# Altium footprint library VESC_DEVICE.PcbLib: 39 footprints (part 1 of 3)
Each footprint in its own frame and in the unit in brackets; x right, y up, seen from the top. Pads: shape width x height; smd on the part's side, far side on the other; paste and mask are expansions set on the pad; w line width, h text height; cw(c..) or ccw(c..) is an arc to the next point about the centre after c.
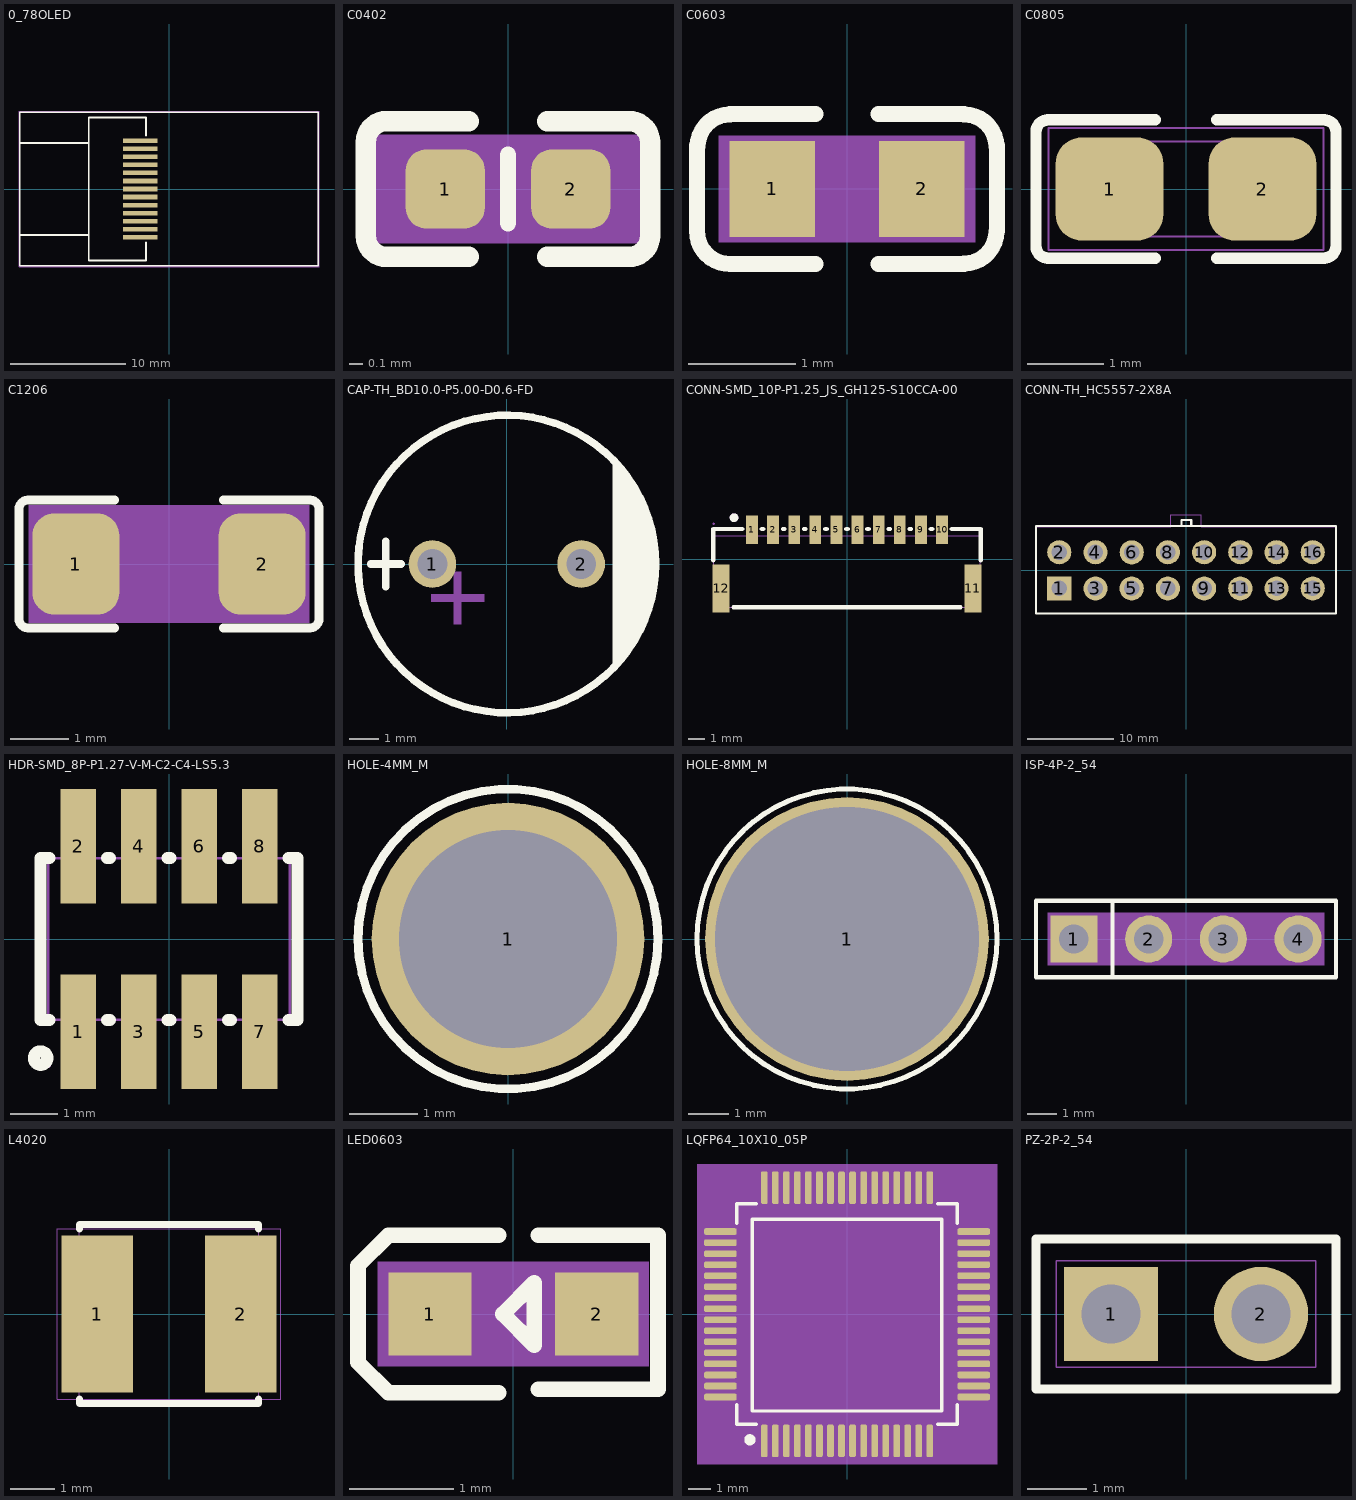
[diagram p0: the footprints below, top view; thin cyan lines are the x and y axes]

## 0_78OLED [mm] "0_78OLED"
pads (13):
  rect 3x0.4 smd: 1(-2.5,-4.2) 2(-2.5,-3.5) 3(-2.5,-2.8) 4(-2.5,-2.1) 5(-2.5,-1.4) 6(-2.5,-0.7) 7(-2.5,0) 8(-2.5,0.7) 9(-2.5,1.4) 10(-2.5,2.1) 11(-2.5,2.8) 12(-2.5,3.5) 13(-2.5,4.2)
Top Overlay:
  lines w0.152: -13,-4 -7,-4 ; -13,4 -7,4 ; -2,-4.631 -2,-6.233 -6.998,-6.233 -7,-6.231 -7,6.231 -2,6.231 -2,4.631 ; -13,-6.7 -13,6.7 13,6.7 13,-6.7 -13,-6.7
Top 3D Body:
  lines w0.025: -13.076,-6.776 -13.076,6.776 13.076,6.776 13.076,-6.776 -13.076,-6.776
Mechanical 9:
  text "9" at -2.754,0.13 h0.64
  text "1" at -2.754,-5.47 h0.64
  text "2" at -2.754,-4.77 h0.64
  text "8" at -2.754,-0.57 h0.64
  text "13" at -3.008,2.93 h0.64
  text "12" at -3.008,2.23 h0.64
  text "10" at -3.008,0.83 h0.64
  text "7" at -2.754,-1.27 h0.64
  text "5" at -2.754,-2.67 h0.64
  text "6" at -2.754,-1.97 h0.64
  text "11" at -3.008,1.53 h0.64
  text "3" at -2.754,-4.07 h0.64
  text "4" at -2.754,-3.37 h0.64
Top Assembly:
  lines w0.025: -13,-6.7 -13,6.7 13,6.7 13,-6.7 -13,-6.7

## C0402 [mm] "C0402"
pads (2):
  rrect52% 0.58x0.58 smd mask+0.05: 1(-0.46,0) 2(0.46,0)
Top Overlay:
  lines w0.12: 0,-0.25 0,0.25
  lines w0.15: -1.041,-0.348 ccw(c-0.889,-0.345) -0.889,-0.498 -0.289,-0.498 ; -1.041,-0.345 -1.041,0.345 ; -1.041,0.348 cw(c-0.889,0.345) -0.889,0.498 -0.289,0.498 ; 0.289,-0.498 0.889,-0.498 ccw(c0.889,-0.345) 1.041,-0.345 1.041,0.345 ccw(c0.889,0.345) 0.889,0.498 0.289,0.498
Top 3D Body:
  region: -1.1,-0.399 1.1,-0.399 1.1,0.399 -1.1,0.399
Mechanical 9:
  text "1" at -0.635,-0.254 h0.64
  text "2" at 0.254,-0.254 h0.64
Top Assembly:
  lines w0.025: -0.508,-0.241 -0.508,0.241 0.508,0.241 0.508,-0.241 -0.508,-0.241
3D body "CAPC1005X55.STEP": height 0.55, standoff 0, extent -0.5,-0.25 0.5,0.25

## C0603 [mil] "C0603"
pads (2):
  rect 31.5x35.4 smd: 1(-27.6,0) 2(27.6,0)
Top Overlay:
  lines w5.9: -55.3,16 -55.3,-15.5 ccw(c-43.13,-15.53) -43.1,-27.7 -11.7,-27.7 ; -55.1,15.7 cw(c-43.13,15.53) -43.1,27.5 ; -43.1,27.7 -11.7,27.7 ; 11.7,-27.7 43.1,-27.7 ; 11.7,27.7 43.1,27.7 ; 43.1,-27.5 ccw(c43.13,-15.53) 55.1,-15.7 ; 43.1,27.5 cw(c43.13,15.53) 55.1,15.7 ; 55.3,-15.5 55.3,16
Top 3D Body:
  region: -47.2,-19.7 47.2,-19.7 47.2,19.7 -47.2,19.7
Mechanical 9:
  text "2" at 27.6,10 h25
  text "1" at -27.6,10 h25
Top Assembly:
  lines w1: -31.5,-15.7 -31.5,15.7 31.5,15.7 31.5,-15.7 -31.5,-15.7
3D body "CAPC1608X90.STEP": height 35.43, standoff 0, extent -32.28,-16.34 30.71,15.55

## C0805 [mil] "C0805"
pads (2):
  rrect50% 55.5x53.1 smd: 1(-39.4,0) 2(39.4,0)
Top Overlay:
  lines w5.9: -15.8,-35.6 -71.3,-35.6 cw(c-71.28,-29.58) -77.3,-29.6 -77.3,29.6 cw(c-71.28,29.58) -71.3,35.6 -15.8,35.6 ; 15.8,-35.6 71.3,-35.6 ccw(c71.28,-29.58) 77.3,-29.6 77.3,29.6 ccw(c71.28,29.58) 71.3,35.6 15.8,35.6
Top 3D Body:
  lines w1: -70.9,-31.5 70.9,-31.5 70.9,31.5 -70.9,31.5 -70.9,-31.5
Mechanical 9:
  text "1" at -49.4,0 h25
  text "2" at 29.4,0 h25
Top Assembly:
  lines w1: -39.4,-24.4 39.4,-24.4 39.4,24.4 -39.4,24.4 -39.4,-24.4
3D body "CAPC2012X140.STEP": height 55.12, standoff 0, extent -39.37,-24.61 39.37,24.61

## C1206 [mil] "C1206"
pads (2):
  rrect50% 58.5x68 smd: 1(-62.7,0) 2(62.6,0)
Top Overlay:
  lines w5.9: -36.5,-43 -94.9,-43 cw(c-94.9,-37) -100.9,-37 -100.9,37 cw(c-94.9,37) -94.9,43 -36.5,43 ; 36.5,-43 94.9,-43 ccw(c94.9,-37) 100.9,-37 100.9,37 ccw(c94.9,37) 94.9,43 36.5,43
Top 3D Body:
  region: -94.5,-39.4 94.5,-39.4 94.5,39.4 -94.5,39.4
Mechanical 9:
  text "2" at 70.9,-31.8 h25
  text "1" at -59.1,-31.8 h25
Top Assembly:
  lines w1: -63,-31.5 63,-31.5 63,31.5 -63,31.5 -63,-31.5
3D body "CAPC3216X127.step": height 50, standoff 0, extent -62.99,-31.5 62.99,31.5

## CAP-TH_BD10.0-P5.00-D0.6-FD [mm]
pads (2):
  round 1.6 hole 1 paste-2539.97 mask+0.05: 1(-2.5,0) 2(2.5,0)
Top Overlay:
  circle w0.254: c0,0 r5
  region: 3.556,3.556 3.556,-3.556 4.318,-2.54 4.826,-1.016 5.08,0.508 4.826,1.524
  lines w0.254: -4.572,0 -3.556,0 ; -4.064,-0.762 -4.064,0.762
Mechanical 6:
  region: -1.778,-0.762 -1.778,-2.032 -1.524,-2.032 -1.524,-0.254 -1.778,-0.254
  region: -2.54,-1.016 -0.762,-1.016 -0.762,-1.27 -2.54,-1.27
Mechanical 15:
  lines w0.051: -5,0 cw(c0,0) 5,0 cw(c0,0) -5,0
3D body "CAP-TH_BD10.0-P5.00-D0.6-FD.step": height 24.91, standoff -3.5, extent -4.991,-5 5.005,5

## CONN-SMD_10P-P1.25_JS_GH125-S10CCA-00 [mm]
pads (12):
  rect 0.7x1.68 smd paste+0 mask+0.05: 1(-5.625,1.733) 2(-4.375,1.733) 3(-3.125,1.733) 4(-1.875,1.733) 5(-0.625,1.733) 6(0.625,1.733) 7(1.875,1.733) 8(3.125,1.733) 9(4.375,1.733) 10(5.625,1.733)
  rect 1x2.85 smd paste+0 mask+0.05: 11(7.455,-1.733) 12(-7.455,-1.733)
Top Overlay:
  circle w0.254: c-6.69,2.45 r0.127
  lines w0.254: -7.924,-0.076 -7.924,1.778 -6.206,1.778 ; -6.724,-2.857 6.724,-2.857 ; -5.044,1.778 -4.956,1.778 ; -3.794,1.778 -3.706,1.778 ; -2.544,1.778 -2.456,1.778 ; -1.294,1.778 -1.206,1.778 ; -0.044,1.778 0.044,1.778 ; 1.206,1.778 1.294,1.778 ; 2.456,1.778 2.544,1.778 ; 3.706,1.778 3.794,1.778 ; 4.956,1.778 5.044,1.778 ; 6.206,1.778 7.924,1.778 7.924,-0.076
Mechanical 6:
  circle w0.254: c-6.69,2.45 r0.127
Mechanical 15:
  region: -7.555,-1.357 -7.355,-1.357 -7.355,-2.857 -7.555,-2.857
  region: 7.555,-2.857 7.355,-2.857 7.355,-1.357 7.555,-1.357
  region: -5.725,2.09 -5.525,2.09 -5.525,1.09 -5.725,1.09
  region: -4.475,2.09 -4.275,2.09 -4.275,1.09 -4.475,1.09
  region: -3.225,2.09 -3.025,2.09 -3.025,1.09 -3.225,1.09
  region: -1.975,2.09 -1.775,2.09 -1.775,1.09 -1.975,1.09
  region: -0.725,2.09 -0.525,2.09 -0.525,1.09 -0.725,1.09
  region: 0.525,2.09 0.725,2.09 0.725,1.09 0.525,1.09
  region: 1.775,2.09 1.975,2.09 1.975,1.09 1.775,1.09
  region: 3.025,2.09 3.225,2.09 3.225,1.09 3.025,1.09
  region: 4.275,2.09 4.475,2.09 4.475,1.09 4.275,1.09
  region: 5.52,2.09 5.72,2.09 5.72,1.09 5.52,1.09
  region: -7.84,2.09 -7.84,2.115 -7.875,2.15 -7.925,2.15 -7.96,2.115 -7.96,2.09 -7.96,2.065 -7.925,2.03 -7.875,2.03 -7.84,2.065 -7.84,2.09
  lines w0.051: -7.9,-2.857 7.9,-2.857 7.9,1.393 -7.9,1.393 -7.9,-2.857
3D body "3ZO0-CN1.step": height 4.15, standoff 0, extent -7.896,-2.848 7.904,2.082

## CONN-TH_HC5557-2X8A [mm]
pads (16):
  rect 2.8x2.8 hole 1.8: 1(-14.7,-2.1)
  round 2.8 hole 1.8: 2(-14.7,2.1) 3(-10.5,-2.1) 4(-10.5,2.1) 5(-6.3,-2.1) 6(-6.29,2.091) 7(-2.1,-2.1) 8(-2.1,2.1) 9(2.1,-2.1) 10(2.1,2.1) 11(6.3,-2.1) 12(6.3,2.1) 13(10.5,-2.1) 14(10.5,2.1) 15(14.7,-2.1) 16(14.7,2.1)
Top Overlay:
  lines w0.254: -17.4,5 -17.4,-5 17.4,-5 17.4,5.146 -17.4,5.146 ; -0.533,5.204 -0.533,5.842 0.61,5.842 0.61,5.204
Mechanical 15:
  region: -6.86,2.661 -5.72,2.661 -5.72,1.521 -6.86,1.521
  region: -6.87,-1.53 -5.73,-1.53 -5.73,-2.67 -6.87,-2.67
  region: -11.07,2.67 -9.93,2.67 -9.93,1.53 -11.07,1.53
  region: -11.07,-1.53 -9.93,-1.53 -9.93,-2.67 -11.07,-2.67
  region: -15.27,2.67 -14.13,2.67 -14.13,1.53 -15.27,1.53
  region: -15.27,-1.53 -14.13,-1.53 -14.13,-2.67 -15.27,-2.67
  region: -2.67,-1.53 -1.53,-1.53 -1.53,-2.67 -2.67,-2.67
  region: -2.67,2.67 -1.53,2.67 -1.53,1.53 -2.67,1.53
  region: 1.53,-1.53 2.67,-1.53 2.67,-2.67 1.53,-2.67
  region: 1.53,2.67 2.67,2.67 2.67,1.53 1.53,1.53
  region: 5.73,-1.53 6.87,-1.53 6.87,-2.67 5.73,-2.67
  region: 5.73,2.67 6.87,2.67 6.87,1.53 5.73,1.53
  region: 9.93,-1.53 11.07,-1.53 11.07,-2.67 9.93,-2.67
  region: 9.93,2.67 11.07,2.67 11.07,1.53 9.93,1.53
  region: 14.13,-1.53 15.27,-1.53 15.27,-2.67 14.13,-2.67
  region: 14.13,2.67 15.27,2.67 15.27,1.53 14.13,1.53
  lines w0.051: -17.399,-4.953 -17.145,-4.953 -16.637,-4.953 17.399,-4.953 17.399,5.08 1.778,5.08 1.778,6.477 -1.778,6.477 -1.778,5.08 -17.399,5.08 -17.399,-4.953
3D body "yane-H1.step": height 13.2, standoff -3.5, extent -17.4,-4.95 17.4,6.45

## HDR-SMD_8P-P1.27-V-M-C2-C4-LS5.3 [mm]
pads (8):
  rect 0.74x2.4 smd paste+0 mask+0.05: 1(-1.905,-1.95) 2(-1.905,1.95) 3(-0.635,-1.95) 4(-0.635,1.95) 5(0.635,-1.95) 6(0.635,1.95) 7(1.905,-1.95) 8(1.905,1.95)
Top Overlay:
  circle w0.254: c-2.695,-2.5 r0.141
  lines w0.254: -2.506,-1.7 -2.695,-1.7 -2.695,1.7 -2.506,1.7 ; -1.304,-1.7 -1.236,-1.7 ; -1.304,1.7 -1.236,1.7 ; -0.034,-1.7 0.034,-1.7 ; -0.034,1.7 0.034,1.7 ; 1.236,-1.7 1.304,-1.7 ; 1.236,1.7 1.304,1.7 ; 2.506,-1.7 2.695,-1.7 2.695,1.7 2.506,1.7
Mechanical 15:
  region: 1.705,2.65 2.105,2.65 2.105,1.15 1.705,1.15
  region: 1.705,-1.15 2.105,-1.15 2.105,-2.65 1.705,-2.65
  region: 0.435,2.65 0.835,2.65 0.835,1.15 0.435,1.15
  region: 0.435,-1.15 0.835,-1.15 0.835,-2.65 0.435,-2.65
  region: -0.835,2.65 -0.435,2.65 -0.435,1.15 -0.835,1.15
  region: -0.835,-1.15 -0.435,-1.15 -0.435,-2.65 -0.835,-2.65
  region: -2.105,2.65 -1.705,2.65 -1.705,1.15 -2.105,1.15
  region: -2.105,-1.15 -1.705,-1.15 -1.705,-2.65 -2.105,-2.65
  region: -2.48,-2.65 -2.481,-2.626 -2.516,-2.591 -2.565,-2.591 -2.599,-2.626 -2.6,-2.65 -2.599,-2.675 -2.564,-2.709 -2.515,-2.709 -2.481,-2.674 -2.48,-2.65
  lines w0.051: -2.54,-1.7 2.54,-1.7 2.54,1.7 -2.54,1.7 -2.54,-1.7
3D body "iWih-H1.step": height 4.5, standoff 0, extent -2.74,-2.4 2.74,2.4

## HOLE-4MM_M [mm]
pads (1):
  round 4 hole 3.2: 1(0,0)
Top Overlay:
  circle w0.127: c0,0 r2.2
Top Solder:
  circle w0.305: c0.01,-0.002 r1.645
Bottom Solder:
  circle w0.305: c-0.003,-0.001 r1.645

## HOLE-8MM_M [mm]
pads (1):
  round 7 / inner round 4 / far side round 7 hole 6.5: 1(0,0)
Top Overlay:
  circle w0.127: c0,0 r3.7
Top Solder:
  circle w0.305: c0.01,-0.002 r1.645
Bottom Solder:
  circle w0.305: c-0.003,-0.001 r1.645

## ISP-4P-2_54 [mm] "ISP-4P-2_54"
pads (4):
  rect 1.6x1.6 hole 1: 1(-3.81,0)
  round 1.6 hole 1: 2(-1.27,0) 3(1.27,0) 4(3.81,0)
Top Overlay:
  lines w0.15: -2.5,-1.3 -2.5,1.3 ; -5.1,-1.3 5.1,-1.3 5.1,1.3 -5.1,1.3 -5.1,-1.3
Top 3D Body:
  region: -4.7,-0.9 4.7,-0.9 4.7,0.9 -4.7,0.9
Mechanical 9:
  text "1" at -3.092,-0.3 h0.64
  text "3" at 1.908,-0.4 h0.64
  text "2" at -0.492,-0.3 h0.64
  text "4" at 4.508,-0.4 h0.64
Top Assembly:
  lines w0.025: -5.08,-1.27 5.08,-1.27 5.08,1.27 -5.08,1.27 -5.08,-1.27
3D body "dNjH-H1.step": height 8.54, standoff -3, extent -5.08,-1.33 5.09,1.33

## L4020 [mil] "L4020"
pads (2):
  rect 63x137.8 smd: 1(-63,0) 2(63,0)
Top Overlay:
  lines w5.9: -78.7,-74.8 -78.7,-78.7 78.7,-78.7 78.7,-74.8 ; -78.7,74.8 -78.7,78.7 78.7,78.7 78.7,74.8
Top 3D Body:
  lines w1: -98.4,-74.8 -98.4,74.8 98.4,74.8 98.4,-74.8 -98.4,-74.8
Mechanical 9:
  text "1" at -79.1,-11.8 h25
  text "2" at 50.9,-11.8 h25
Top Assembly:
  lines w1: -78.7,-78.7 78.7,-78.7 78.7,78.7 -78.7,78.7 -78.7,-78.7
3D body "IND-SMD_L4.0-W4.0_LQH44PN2R2MP0L.step": height 73.23, standoff 0, extent -79.13,-78.74 79.13,78.74

## LED0603 [mil] "LED0603"
pads (2):
  rect 31.5x31.5 smd: 1(-31.5,0) 2(31.5,0)
Top Overlay:
  lines w5.9: -5.5,-29.8 -47.2,-29.8 -58.7,-18.3 -58.7,18.3 -47.2,29.8 -5.5,29.8 ; 9.4,-28.5 54.7,-28.5 54.7,29.8 9.4,29.8 ; -3.9,0 7.9,11.8 7.9,-11.8 -3.9,0
Top 3D Body:
  region: -51.2,-19.7 51.2,-19.7 51.2,19.7 -51.2,19.7
Mechanical 9:
  text "1" at -23.6,8.2 h25
  text "2" at 39.4,8.2 h25
Top Assembly:
  lines w1: -31.5,-15.7 31.5,-15.7 31.5,15.7 -31.5,15.7 -31.5,-15.7

## LQFP64_10X10_05P [mm] "LQFP64_10X10_05P"
pads (64):
  rrect50% 0.3x1.475 smd: 1(-3.749,-5.751) 2(-3.249,-5.751) 3(-2.749,-5.751) 4(-2.249,-5.751) 5(-1.749,-5.751) 6(-1.249,-5.751) 7(-0.749,-5.751) 8(-0.249,-5.751) 9(0.251,-5.751) 10(0.751,-5.751) 11(1.251,-5.751) 12(1.751,-5.751) 13(2.251,-5.751) 14(2.751,-5.751) 15(3.251,-5.751) 16(3.751,-5.751) 33(3.751,5.725) 34(3.251,5.725) 35(2.751,5.725) 36(2.251,5.725) 37(1.751,5.725) 38(1.251,5.725) 39(0.751,5.725) 40(0.251,5.725) 41(-0.249,5.725) 42(-0.749,5.725) 43(-1.249,5.725) 44(-1.749,5.725) 45(-2.249,5.725) 46(-2.749,5.725) 47(-3.249,5.725) 48(-3.749,5.725)
  rrect50% 1.475x0.3 smd: 17(5.739,-3.763) 18(5.739,-3.263) 19(5.739,-2.763) 20(5.739,-2.263) 21(5.739,-1.763) 22(5.739,-1.263) 23(5.739,-0.763) 24(5.739,-0.263) 25(5.739,0.237) 26(5.739,0.737) 27(5.739,1.237) 28(5.739,1.737) 29(5.739,2.237) 30(5.739,2.737) 31(5.739,3.237) 32(5.739,3.737) 49(-5.737,3.737) 50(-5.737,3.237) 51(-5.737,2.737) 52(-5.737,2.237) 53(-5.737,1.737) 54(-5.737,1.237) 55(-5.737,0.737) 56(-5.737,0.237) 57(-5.737,-0.263) 58(-5.737,-0.763) 59(-5.737,-1.263) 60(-5.737,-1.763) 61(-5.737,-2.263) 62(-5.737,-2.763) 63(-5.737,-3.263) 64(-5.737,-3.763)
Top Overlay:
  circle w0.254: c-4.404,-5.703 r0.127
  lines w0.15: -5.001,-4.1 -5.001,-5.001 -4.1,-5.001 ; -5.001,4.1 -5.001,5.001 -4.1,5.001 ; 4.1,-5.001 5.001,-5.001 5.001,-4.1 ; 4.1,5.001 5.001,5.001 5.001,4.1 ; -4.3,-4.399 -4.3,4.3 4.3,4.3 4.3,-4.399 -4.3,-4.399
Top 3D Body:
  region: -6.8,-6.8 6.8,-6.8 6.8,6.8 -6.8,6.8
Mechanical 9:
  text "3" at -2.751,-6.005 h0.64
  text "4" at -2.25,-6.005 h0.64
  text "49" at -5.751,3.241 h0.64
  text "36" at 2.25,5.243 h0.64
  text "12" at 1.75,-6.259 h0.64
  text "18" at 5.751,-3.759 h0.64
  text "63" at -5.751,-3.759 h0.64
  text "60" at -5.751,-2.258 h0.64
  text "22" at 5.751,-1.758 h0.64
  text "8" at -0.249,-6.005 h0.64
  text "5" at -1.75,-6.005 h0.64
  text "15" at 3.251,-6.259 h0.64
  text "62" at -5.751,-3.259 h0.64
  text "39" at 0.749,5.243 h0.64
  text "35" at 2.751,5.243 h0.64
  text "26" at 5.751,0.241 h0.64
  text "11" at 1.25,-6.259 h0.64
  text "9" at 0.249,-6.005 h0.64
  text "47" at -3.251,5.243 h0.64
  text "41" at -0.249,5.243 h0.64
  text "31" at 5.751,2.743 h0.64
  text "45" at -2.25,5.243 h0.64
  text "46" at -2.751,5.243 h0.64
  text "44" at -1.75,5.243 h0.64
  text "25" at 5.751,-0.259 h0.64
  text "61" at -5.751,-2.758 h0.64
  text "43" at -1.25,5.243 h0.64
  text "10" at 0.749,-6.259 h0.64
  text "27" at 5.751,0.742 h0.64
  text "34" at 3.251,5.243 h0.64
  text "37" at 1.75,5.243 h0.64
  text "21" at 5.751,-2.258 h0.64
  text "52" at -5.751,1.742 h0.64
  text "24" at 5.751,-0.757 h0.64
  text "42" at -0.749,5.243 h0.64
  text "17" at 5.751,-4.257 h0.64
  text "30" at 5.751,2.243 h0.64
  text "20" at 5.751,-2.758 h0.64
  text "58" at -5.751,-1.257 h0.64
  text "6" at -1.25,-6.005 h0.64
  text "29" at 5.751,1.742 h0.64
  text "23" at 5.751,-1.257 h0.64
  text "14" at 2.751,-6.259 h0.64
  text "48" at -3.749,5.243 h0.64
  text "13" at 2.25,-6.259 h0.64
  text "1" at -3.749,-6.005 h0.64
  text "64" at -5.751,-4.257 h0.64
  text "19" at 5.751,-3.259 h0.64
  text "32" at 5.751,3.241 h0.64
  text "16" at 3.749,-6.259 h0.64
  text "7" at -0.749,-6.005 h0.64
  text "38" at 1.25,5.243 h0.64
  text "59" at -5.751,-1.758 h0.64
  text "51" at -5.751,2.243 h0.64
  text "50" at -5.751,2.743 h0.64
  text "40" at 0.249,5.243 h0.64
  text "54" at -5.751,0.742 h0.64
  text "53" at -5.751,1.242 h0.64
  text "33" at 3.749,5.243 h0.64
  text "28" at 5.751,1.242 h0.64
  text "2" at -3.251,-6.005 h0.64
  text "56" at -5.751,-0.259 h0.64
  text "57" at -5.751,-0.757 h0.64
  text "55" at -5.751,0.241 h0.64
Top Assembly:
  dashed: -4.4,-5.332 -4.541,-5.36 -4.661,-5.439 -4.74,-5.559 -4.768,-5.7 -4.74,-5.841 -4.714,-5.881 -4.661,-5.961 -4.541,-6.04 -4.4,-6.068 -4.259,-6.04 -4.139,-5.961 -4.086,-5.881 -4.06,-5.841 -4.032,-5.7 -4.06,-5.559 -4.139,-5.439 -4.259,-5.36
  lines w0.025: -5.001,-5.001 -5.001,5.001 5.001,5.001 5.001,-5.001 -5.001,-5.001
3D body "STM32F405RGT6.stp": height 1.31, standoff -0.12, extent -5.969,-6 6.031,6

## PZ-2P-2_54 [mm] "PZ-2P-2_54"
pads (2):
  rect 1.6x1.6 hole 1: 1(-1.27,0)
  round 1.6 hole 1: 2(1.27,0)
Top Overlay:
  lines w0.152: -2.54,-1.27 2.54,-1.27 2.54,1.27 -2.54,1.27 -2.54,-1.27
Top 3D Body:
  lines w0.025: -2.2,-0.9 -2.2,0.9 2.2,0.9 2.2,-0.9 -2.2,-0.9
Mechanical 9:
  text "2" at 1.54,-0.808 h0.64
  text "1" at -1.06,-0.808 h0.64
Top Assembly:
  lines w0.01: -2.54,-1.27 2.54,-1.27 2.54,1.27 -2.54,1.27 -2.54,-1.27